# EAGLE library part OV7670_BIG (library Chao)
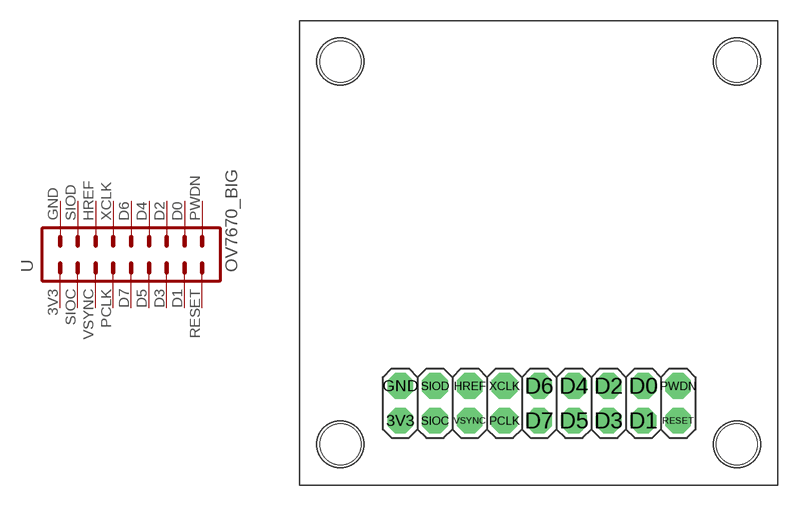
[diagram p8: symbol with the pads of OV7670_BIG; footprint OV7670_BIG]

Designator prefix -

## OV7670_BIG  [OV7670_BIG]
3V3  3V3  pas
D0  D0  pas
D1  D1  pas
D2  D2  pas
D3  D3  pas
D4  D4  pas
D5  D5  pas
D6  D6  pas
D7  D7  pas
GND  GND  pas
HREF  HREF  pas
PCLK  PCLK  pas
PWDN  PWDN  pas
RESET  RESET  pas
SIOC  SIOC  pas
SIOD  SIOD  pas
VSYNC  VSYNC  pas
XCLK  XCLK  pas

## Footprint OV7670_BIG (pad centres in mm)
drill 1.016 pad 1.88 octagon: 3V3 -10.12,4.73; D0 7.66,7.27; D1 7.66,4.73; D2 5.12,7.27; D3 5.12,4.73; D4 2.58,7.27; D5 2.58,4.73; D6 0.04,7.27; D7 0.04,4.73; GND -10.12,7.27; HREF -5.04,7.27; PCLK -2.5,4.73; PWDN 10.2,7.27; RESET 10.2,4.73; SIOC -7.58,4.73; SIOD -7.58,7.27; VSYNC -5.04,4.73; XCLK -2.5,7.27
hole 3 at 14.5,31
hole 3 at 14.5,3
hole 3 at -14.5,3
hole 3 at -14.5,31